# Altium integrated library SG-8018CE-60.000000MHZ-TJHPA.IntLib: 1 symbol
Pins are listed as number, name and electrical type; pins without a type are passive.

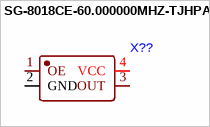
[diagram p0: symbol SG-8018CE-60.000000MHZ-TJHPA]

## SG-8018CE-60.000000MHZ-TJHPA
designator X??
footprint OSC-SMD_4P-L3.2-W2.5-BL_SIT8008BI
pins: 1 OE, 2 GND, 3 OUT, 4 VCC